# Altium schematic symbol library PC_TP_GND.SchLib: 1 symbol
Pins are listed as number, name and electrical type; pins without a type are passive.

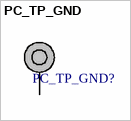
[diagram p0: symbol PC_TP_GND]

## PC_TP_GND
designator PC_TP_GND?, comment PC Test Point GND  (value not drawn)
TEST POINT PC MINI .040"D BLACK; Manufacturer Part Number: 5001; Manufacturer: Keystone Electronics; Catalog Drawings: 5000 Series; Online Catalog: Color Coded Test Points; Kits: DKTGRS232C-KIT-ND / - TTL CONVERTER; Alternate Color: 5004K-ND / - TEST POINT PC MINI .040"D YELLOW / 5003K-ND / - TEST POINT PC MINI .040"D ORANGE / 5002K-ND / - TEST POINT PC MINI .040"D WHITE / 5000K-ND / - TEST POINT PC MINI .040"D RED; Other Names: 5001K; Supplier 1: Digi-Key; RoHS Information: RoHS Compliance Statement; Standard Package: 100; Family: Test Points; Series: THM; Packaging: Bulk; Type: PC Test Point, Miniature; Terminal: 0.010" x 0.020" (0.25mm x 0.51mm) Phosphor Bronze Wire, Silver Plated; Mounting Type: 0.040" (1.02mm) Hole Diameter; Material: Base, Nylon 46, UL 94V-0; Color: Black; ComponentLink1URL: https://datasheet.ciiva.com/27052/1581986-27052611.pdf; ComponentLink1Description: https://datasheet.ciiva.com/27052/1581986-27052611.pdf; ComponentLink2URL: https://datasheet.ciiva.com/16318/m60-2p60-16318423.pdf; ComponentLink2Description: https://datasheet.ciiva.com/16318/m60-2p60-16318423.pdf; ComponentLink3URL: https://datasheet.ciiva.com/16884/70182825-16884025.pdf; ComponentLink3Description: https://datasheet.ciiva.com/16884/70182825-16884025.pdf; ComponentLink4URL: https://datasheet.ciiva.com/22631/1703983-22631100.pdf; ComponentLink4Description: https://datasheet.ciiva.com/22631/1703983-22631100.pdf; ComponentLink5URL: https://datasheet.ciiva.com/11836/0900766b8009b7c7-11836045.pdf; ComponentLink5Description: https://datasheet.ciiva.com/11836/0900766b8009b7c7-11836045.pdf; Supplier Part Number 1: 36-5001-ND; Stock 1: 888627; Pricing 1: 1=0.37, 10=0.316, 50=0.2298, 100=0.2209, 250=0.1983, 1000=0.1616, 2500=0.1442, 5000=0.1352 (USD); Category: Test and Measurement
pins: 1